# EAGLE library part IP4220CZ6 (library protection)
IP4220CZ6 Dual USB 2.0 Integrated ESD protection to IEC 61000-4-2 level 4 FEATURES > ESD IEC 61000-4-2 level 4, ± 8kV contact discharge compliant protection > Four ultra-low input capacitance (1 pF typ.) ESD rail-to-rail protection diodes > Low voltage clamping due to integrated Zener diode > Small 6 lead SO6 (SOT457) package APPLICATIONS General-purpose downstream ESD protection high frequency analog signals and high-speed serial data transmission for ports inside: > Cellular and PCS mobile handsets > PC-/Notebook USB2.0/IEEE1394 ports > DVI interfaces > Cordless telephones > Wireless data (WAN/LAN) systems > PDAs
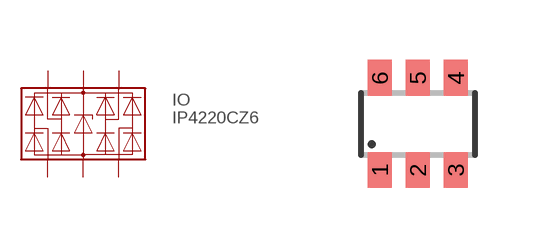
[diagram p0: symbol with the pads of SOT23-6; footprint SOT23-6]

Designator prefix IO

## IP4220CZ6 (MPN: IP4220CZ6; OC_FARNELL: 1506629; PACKAGE: SOT-457; SUPPLIER: NXP)  [SOT23-6]
1  A
2  GND
3  B
4  C
5  UCC
6  D

## Footprint SOT23-6 (pad centres in mm)
Small Outline Transistor 6 lead
smd 0.6 x 0.9: 1 -0.95,-1.15; 2 0,-1.15; 3 0.95,-1.15; 4 0.95,1.15; 5 0,1.15; 6 -0.95,1.15